# Altium schematic symbol library CAN.SchLib: 1 symbol
Pins are listed as number, name and electrical type; pins without a type are passive.

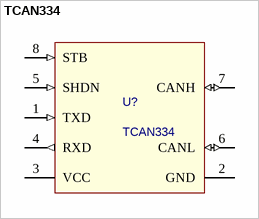
[diagram p0: symbol TCAN334]

## TCAN334
designator U?
footprint SOT23-8N
pins: 1 TXD (in) "CAN transmit data input (LOW for dominant and HIGH for recessive bus states), inte", 2 GND (power) "Ground connection.", 3 VCC (power) "3.3-V supply voltage.", 4 RXD (out) "CAN receive data output (LOW for dominant and HIGH for recessive bus states), tri-state.", 5 SHDN (in) "Drive high for shutdown mode. Internal pull-down.", 6 CANL (io) "Low level CAN bus line.", 7 CANH (io) "High level CAN bus line.", 8 STB (in) "Drive high for low power standby mode, integrated pull-down."